# Altium integrated library Micron Memory Mobile LPDRAM.IntLib: 146 symbols (part 19 of 41)
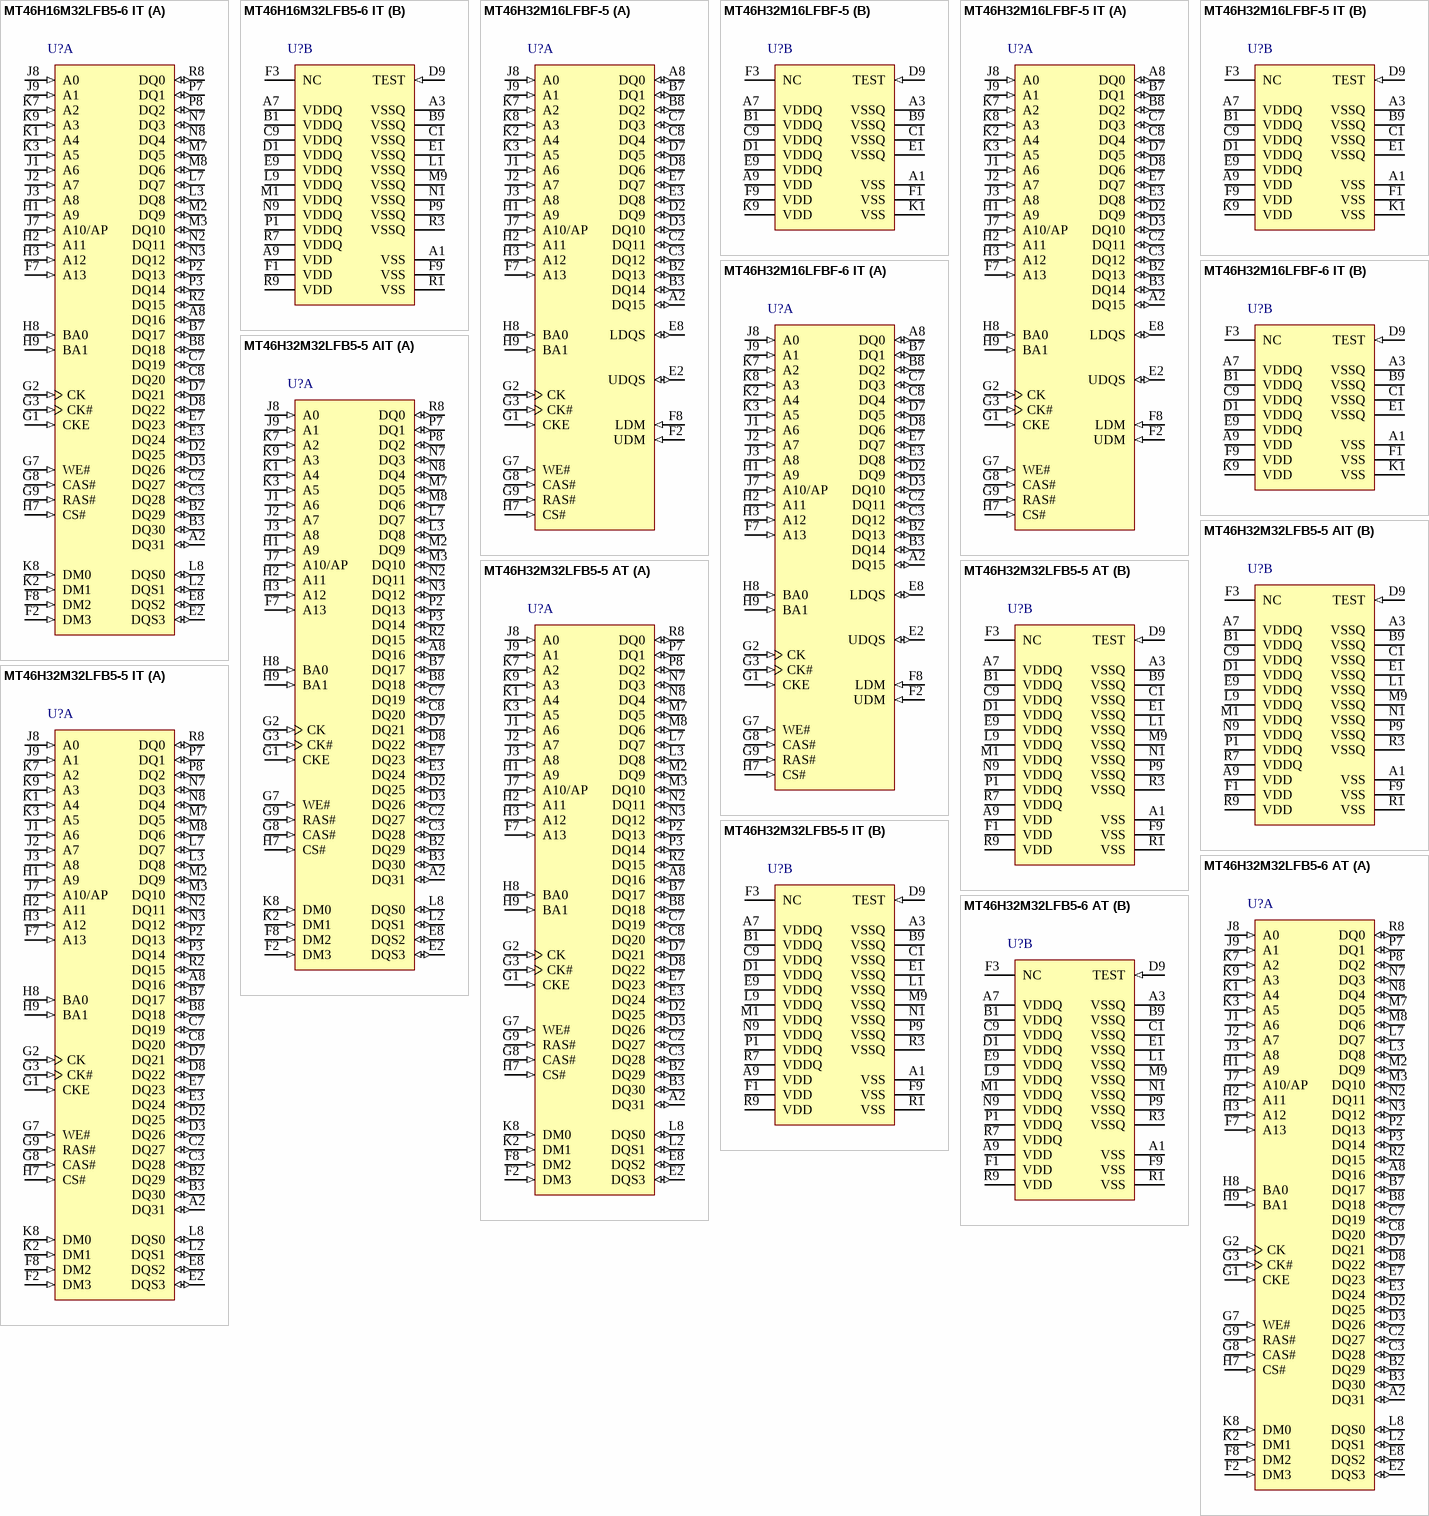
[diagram p42: symbols MT46H16M32LFB5-6 IT to MT46H32M32LFB5-6 AT]

## MT46H32M32LFB5-5 AIT
designator U?
1Gb LPDDR400 SDRAM, 32Mb x 32, 5ns, 1.8V, -40 to 85 degC, 90-Ball VFBGA, Pb-Free; Manufacturer: Micron; PartNumber: MT46H32M32LFB5-5 AIT; Clock Rate: 200 MHz; Op. Temp.: -40C to +85C; DatasheetVersion: Rev.B; PackageVersion: Rev.P; PackageReference: MICT-B5-90; PackageDescription: 90-Ball Very Thin Profile Fine-Pitch Ball Grid Array, 13 x 8 mm, Pitch 0.8 mm; Cycle Time: 5ns; Data Rate: LPDDR400; Density: 1Gb; Depth: 32Mb; Package: VFBGA; Part Status: Contact Factory; Pin Count: 90-ball; RoHS: Yes; Technology: Mobile LPDDR; Voltage: 1.8V; Width: x32; Mounting Technology: Surface Mount; ComponentLink1Description: Manufacturer URL; ComponentLink1URL: http://www.micron.com/; ComponentLink2Description: Datasheet; ComponentLink2URL: http://www.micron.com/~/media/Documents/Products/Data%20Sheet/DRAM/Mobile%20DRAM/Low-Power%20DRAM/LPDDR/60-series/t68m_esg_mobile_lpddr.pdf; ComponentLink3Description: Package Specification; ComponentLink3URL: http://www.micron.com/~/media/Documents/Products/Data%20Sheet/DRAM/Mobile%20DRAM/Low-Power%20DRAM/LPDDR/60-series/T67M_512Mb_mobile_lpddr_sdram_embedded.pdf
footprint MICT-B5-90 (BGA, 90-Balls, Body 13x8mm, Pitch 0.8mm)
part A pins: A2 DQ31 (io) "Data input/output: Data bus for x16 and x32.", A8 DQ16 (io) "Data input/output: Data bus for x16 and x32.", B2 DQ29 (io) "Data input/output: Data bus for x16 and x32.", B3 DQ30 (io) "Data input/output: Data bus for x16 and x32.", B7 DQ17 (io) "Data input/output: Data bus for x16 and x32.", B8 DQ18 (io) "Data input/output: Data bus for x16 and x32.", C2 DQ27 (io) "Data input/output: Data bus for x16 and x32.", C3 DQ28 (io) "Data input/output: Data bus for x16 and x32.", C7 DQ19 (io) "Data input/output: Data bus for x16 and x32.", C8 DQ20 (io) "Data input/output: Data bus for x16 and x32.", D2 DQ25 (io) "Data input/output: Data bus for x16 and x32.", D3 DQ26 (io) "Data input/output: Data bus for x16 and x32.", D7 DQ21 (io) "Data input/output: Data bus for x16 and x32.", D8 DQ22 (io) "Data input/output: Data bus for x16 and x32.", E2 DQS3 (io) "Data strobe: Output with read data, input with write data. DQS is edge-aligned with read data, center-aligned in write data. It is used to capture data.", E3 DQ24 (io) "Data input/output: Data bus for x16 and x32.", E7 DQ23 (io) "Data input/output: Data bus for x16 and x32.", E8 DQS2 (io) "Data strobe: Output with read data, input with write data. DQS is edge-aligned with read data, center-aligned in write data. It is used to capture data.", F2 DM3 (in) "Input data mask: DM is an input mask signal for write data. Input data is masked when DM is sampled HIGH along with that input data during a WRITE access. DM is sampled on both edges of DQS. Although DM balls are input-only, (See Datasheet)", F7 A13 (in) "Address inputs: Provide the row address for ACTIVE commands, and the column address and auto precharge bit (A10) for READ or WRITE commands, to select one location out of the memory array in the respective bank. During a (See Datasheet)", F8 DM2 (in) "Input data mask: DM is an input mask signal for write data. Input data is masked when DM is sampled HIGH along with that input data during a WRITE access. DM is sampled on both edges of DQS. Although DM balls are input-only, (See Datasheet)", G1 CKE (in) "Clock enable: CKE HIGH activates, and CKE LOW deactivates, the internal clock signals, input buffers, and output drivers. Taking CKE LOW enables PRECHARGE power-down and SELF REFRESH operations (all banks idle), or ACTIVE (See Datasheet)", G2 CK (in) "any bank). CKE is synchronous for all functions except SELF REFRESH exit. All input buffers (except CKE) are disabled during power-down and self refresh modes. CKE0 is used for a single LPDDR product. CKE1 is used for dual (See Datasheet)", G3 CK# (in) "Clock: CK is the system clock input. CK and CK# are differential clock inputs. All address and control input signals are sampled on the crossing of the positive edge of CK and the negative edge of CK#. Input and output data (See Datasheet)", G7 WE# (in) "Command inputs: RAS#, CAS#, and WE# (along with CS#) define the command being entered.", G8 CAS# (in) "Command inputs: RAS#, CAS#, and WE# (along with CS#) define the command being entered.", G9 RAS# (in) "Command inputs: RAS#, CAS#, and WE# (along with CS#) define the command being entered.", H1 A9 (in) "Address inputs: Provide the row address for ACTIVE commands, and the column address and auto precharge bit (A10) for READ or WRITE commands, to select one location out of the memory array in the respective bank. During a (See Datasheet)", H2 A11 (in) "Address inputs: Provide the row address for ACTIVE commands, and the column address and auto precharge bit (A10) for READ or WRITE commands, to select one location out of the memory array in the respective bank. During a (See Datasheet)", H3 A12 (in) "Address inputs: Provide the row address for ACTIVE commands, and the column address and auto precharge bit (A10) for READ or WRITE commands, to select one location out of the memory array in the respective bank. During a (See Datasheet)", H7 CS# (in) "Chip select: CS# enables (registered LOW) and disables (registered HIGH) the command decoder. All commands are masked when CS# is registered HIGH. CS# provides for external bank selection on systems with multiple banks. CS# (See Datasheet)", H8 BA0 (in) "Bank address inputs: BA0 and BA1 define to which bank an ACTIVE, READ, WRITE, or PRECHARGE command is being applied. BA0 and BA1 also determine which mode register is loaded during a LOAD MODE REGISTER command.", H9 BA1 (in) "Bank address inputs: BA0 and BA1 define to which bank an ACTIVE, READ, WRITE, or PRECHARGE command is being applied. BA0 and BA1 also determine which mode register is loaded during a LOAD MODE REGISTER command.", J1 A6 (in) "Address inputs: Provide the row address for ACTIVE commands, and the column address and auto precharge bit (A10) for READ or WRITE commands, to select one location out of the memory array in the respective bank. During a (See Datasheet)", J2 A7 (in) "Address inputs: Provide the row address for ACTIVE commands, and the column address and auto precharge bit (A10) for READ or WRITE commands, to select one location out of the memory array in the respective bank. During a (See Datasheet)", J3 A8 (in) "Address inputs: Provide the row address for ACTIVE commands, and the column address and auto precharge bit (A10) for READ or WRITE commands, to select one location out of the memory array in the respective bank. During a (See Datasheet)", J7 A10/AP (in) "Address inputs: Provide the row address for ACTIVE commands, and the column address and auto precharge bit (A10) for READ or WRITE commands, to select one location out of the memory array in the respective bank. During a (See Datasheet)", J8 A0 (in) "Address inputs: Provide the row address for ACTIVE commands, and the column address and auto precharge bit (A10) for READ or WRITE commands, to select one location out of the memory array in the respective bank. During a (See Datasheet)", J9 A1 (in) "Address inputs: Provide the row address for ACTIVE commands, and the column address and auto precharge bit (A10) for READ or WRITE commands, to select one location out of the memory array in the respective bank. During a (See Datasheet)", K1 A4 (in) "Address inputs: Provide the row address for ACTIVE commands, and the column address and auto precharge bit (A10) for READ or WRITE commands, to select one location out of the memory array in the respective bank. During a (See Datasheet)", K2 DM1 (in) "Input data mask: DM is an input mask signal for write data. Input data is masked when DM is sampled HIGH along with that input data during a WRITE access. DM is sampled on both edges of DQS. Although DM balls are input-only, (See Datasheet)", K3 A5 (in) "Address inputs: Provide the row address for ACTIVE commands, and the column address and auto precharge bit (A10) for READ or WRITE commands, to select one location out of the memory array in the respective bank. During a (See Datasheet)", K7 A2 (in) "Address inputs: Provide the row address for ACTIVE commands, and the column address and auto precharge bit (A10) for READ or WRITE commands, to select one location out of the memory array in the respective bank. During a (See Datasheet)", K8 DM0 (in) "Input data mask: DM is an input mask signal for write data. Input data is masked when DM is sampled HIGH along with that input data during a WRITE access. DM is sampled on both edges of DQS. Although DM balls are input-only, (See Datasheet)", K9 A3 (in) "Address inputs: Provide the row address for ACTIVE commands, and the column address and auto precharge bit (A10) for READ or WRITE commands, to select one location out of the memory array in the respective bank. During a (See Datasheet)", L2 DQS1 (io) "Data strobe: Output with read data, input with write data. DQS is edge-aligned with read data, center-aligned in write data. It is used to capture data.", L3 DQ8 (io) "Data input/output: Data bus for x16 and x32.", L7 DQ7 (io) "Data input/output: Data bus for x16 and x32.", L8 DQS0 (io) "Data strobe: Output with read data, input with write data. DQS is edge-aligned with read data, center-aligned in write data. It is used to capture data.", M2 DQ9 (io) "Data input/output: Data bus for x16 and x32.", M3 DQ10 (io) "Data input/output: Data bus for x16 and x32.", M7 DQ5 (io) "Data input/output: Data bus for x16 and x32.", M8 DQ6 (io) "Data input/output: Data bus for x16 and x32.", N2 DQ11 (io) "Data input/output: Data bus for x16 and x32.", N3 DQ12 (io) "Data input/output: Data bus for x16 and x32.", N7 DQ3 (io) "Data input/output: Data bus for x16 and x32.", N8 DQ4 (io) "Data input/output: Data bus for x16 and x32.", P2 DQ13 (io) "Data input/output: Data bus for x16 and x32.", P3 DQ14 (io) "Data input/output: Data bus for x16 and x32.", P7 DQ1 (io) "Data input/output: Data bus for x16 and x32.", P8 DQ2 (io) "Data input/output: Data bus for x16 and x32.", R2 DQ15 (io) "Data input/output: Data bus for x16 and x32.", R8 DQ0 (io) "Data input/output: Data bus for x16 and x32."
part B pins: A1 VSS (power) "Ground.", A3 VSSQ (power) "DQ ground.", A7 VDDQ (power) "DQ power supply.", A9 VDD (power) "Power supply.", B1 VDDQ (power) "DQ power supply.", B9 VSSQ (power) "DQ ground.", C1 VSSQ (power) "DQ ground.", C9 VDDQ (power) "DQ power supply.", D1 VDDQ (power) "DQ power supply.", D9 TEST (in) "Test pin: Must be tied to VSS or VSSQ in normal operations.", E1 VSSQ (power) "DQ ground.", E9 VDDQ (power) "DQ power supply.", F1 VDD (power) "Power supply.", F3 NC "No connect: May be left unconnected.", F9 VSS (power) "Ground.", L1 VSSQ (power) "DQ ground.", L9 VDDQ (power) "DQ power supply.", M1 VDDQ (power) "DQ power supply.", M9 VSSQ (power) "DQ ground.", N1 VSSQ (power) "DQ ground.", N9 VDDQ (power) "DQ power supply.", P1 VDDQ (power) "DQ power supply.", P9 VSSQ (power) "DQ ground.", R1 VSS (power) "Ground.", R3 VSSQ (power) "DQ ground.", R7 VDDQ (power) "DQ power supply.", R9 VDD (power) "Power supply."

## MT46H32M32LFB5-5 AT
designator U?
1Gb LPDDR400 SDRAM, 32Mb x 32, 5ns, 1.8V, -40 to 105 degC, 90-Ball VFBGA, Pb-Free; Manufacturer: Micron; PartNumber: MT46H32M32LFB5-5 AT; Clock Rate: 200 MHz; Op. Temp.: -40C to +105C; DatasheetVersion: Rev.B; PackageVersion: Rev.P; PackageReference: MICT-B5-90; PackageDescription: 90-Ball Very Thin Profile Fine-Pitch Ball Grid Array, 13 x 8 mm, Pitch 0.8 mm; Cycle Time: 5ns; Data Rate: LPDDR400; Density: 1Gb; Depth: 32Mb; Package: VFBGA; Part Status: Production; Pin Count: 90-ball; RoHS: Yes; Technology: Mobile LPDDR; Voltage: 1.8V; Width: x32; Mounting Technology: Surface Mount; ComponentLink1Description: Manufacturer URL; ComponentLink1URL: http://www.micron.com/; ComponentLink2Description: Datasheet; ComponentLink2URL: http://www.micron.com/~/media/Documents/Products/Data%20Sheet/DRAM/Mobile%20DRAM/Low-Power%20DRAM/LPDDR/60-series/t68m_esg_mobile_lpddr.pdf; ComponentLink3Description: Package Specification; ComponentLink3URL: http://www.micron.com/~/media/Documents/Products/Data%20Sheet/DRAM/Mobile%20DRAM/Low-Power%20DRAM/LPDDR/60-series/T67M_512Mb_mobile_lpddr_sdram_embedded.pdf
footprint MICT-B5-90 (BGA, 90-Balls, Body 13x8mm, Pitch 0.8mm)
part A pins: A2 DQ31 (io) "Data input/output: Data bus for x16 and x32.", A8 DQ16 (io) "Data input/output: Data bus for x16 and x32.", B2 DQ29 (io) "Data input/output: Data bus for x16 and x32.", B3 DQ30 (io) "Data input/output: Data bus for x16 and x32.", B7 DQ17 (io) "Data input/output: Data bus for x16 and x32.", B8 DQ18 (io) "Data input/output: Data bus for x16 and x32.", C2 DQ27 (io) "Data input/output: Data bus for x16 and x32.", C3 DQ28 (io) "Data input/output: Data bus for x16 and x32.", C7 DQ19 (io) "Data input/output: Data bus for x16 and x32.", C8 DQ20 (io) "Data input/output: Data bus for x16 and x32.", D2 DQ25 (io) "Data input/output: Data bus for x16 and x32.", D3 DQ26 (io) "Data input/output: Data bus for x16 and x32.", D7 DQ21 (io) "Data input/output: Data bus for x16 and x32.", D8 DQ22 (io) "Data input/output: Data bus for x16 and x32.", E2 DQS3 (io) "Data strobe: Output with read data, input with write data. DQS is edge-aligned with read data, center-aligned in write data. It is used to capture data.", E3 DQ24 (io) "Data input/output: Data bus for x16 and x32.", E7 DQ23 (io) "Data input/output: Data bus for x16 and x32.", E8 DQS2 (io) "Data strobe: Output with read data, input with write data. DQS is edge-aligned with read data, center-aligned in write data. It is used to capture data.", F2 DM3 (in) "Input data mask: DM is an input mask signal for write data. Input data is masked when DM is sampled HIGH along with that input data during a WRITE access. DM is sampled on both edges of DQS. Although DM balls are input-only, (See Datasheet)", F7 A13 (in) "Address inputs: Provide the row address for ACTIVE commands, and the column address and auto precharge bit (A10) for READ or WRITE commands, to select one location out of the memory array in the respective bank. During a (See Datasheet)", F8 DM2 (in) "Input data mask: DM is an input mask signal for write data. Input data is masked when DM is sampled HIGH along with that input data during a WRITE access. DM is sampled on both edges of DQS. Although DM balls are input-only, (See Datasheet)", G1 CKE (in) "Clock enable: CKE HIGH activates, and CKE LOW deactivates, the internal clock signals, input buffers, and output drivers. Taking CKE LOW enables PRECHARGE power-down and SELF REFRESH operations (all banks idle), or ACTIVE (See Datasheet)", G2 CK (in) "any bank). CKE is synchronous for all functions except SELF REFRESH exit. All input buffers (except CKE) are disabled during power-down and self refresh modes. CKE0 is used for a single LPDDR product. CKE1 is used for dual (See Datasheet)", G3 CK# (in) "Clock: CK is the system clock input. CK and CK# are differential clock inputs. All address and control input signals are sampled on the crossing of the positive edge of CK and the negative edge of CK#. Input and output data (See Datasheet)", G7 WE# (in) "Command inputs: RAS#, CAS#, and WE# (along with CS#) define the command being entered.", G8 CAS# (in) "Command inputs: RAS#, CAS#, and WE# (along with CS#) define the command being entered.", G9 RAS# (in) "Command inputs: RAS#, CAS#, and WE# (along with CS#) define the command being entered.", H1 A9 (in) "Address inputs: Provide the row address for ACTIVE commands, and the column address and auto precharge bit (A10) for READ or WRITE commands, to select one location out of the memory array in the respective bank. During a (See Datasheet)", H2 A11 (in) "Address inputs: Provide the row address for ACTIVE commands, and the column address and auto precharge bit (A10) for READ or WRITE commands, to select one location out of the memory array in the respective bank. During a (See Datasheet)", H3 A12 (in) "Address inputs: Provide the row address for ACTIVE commands, and the column address and auto precharge bit (A10) for READ or WRITE commands, to select one location out of the memory array in the respective bank. During a (See Datasheet)", H7 CS# (in) "Chip select: CS# enables (registered LOW) and disables (registered HIGH) the command decoder. All commands are masked when CS# is registered HIGH. CS# provides for external bank selection on systems with multiple banks. CS# (See Datasheet)", H8 BA0 (in) "Bank address inputs: BA0 and BA1 define to which bank an ACTIVE, READ, WRITE, or PRECHARGE command is being applied. BA0 and BA1 also determine which mode register is loaded during a LOAD MODE REGISTER command.", H9 BA1 (in) "Bank address inputs: BA0 and BA1 define to which bank an ACTIVE, READ, WRITE, or PRECHARGE command is being applied. BA0 and BA1 also determine which mode register is loaded during a LOAD MODE REGISTER command.", J1 A6 (in) "Address inputs: Provide the row address for ACTIVE commands, and the column address and auto precharge bit (A10) for READ or WRITE commands, to select one location out of the memory array in the respective bank. During a (See Datasheet)", J2 A7 (in) "Address inputs: Provide the row address for ACTIVE commands, and the column address and auto precharge bit (A10) for READ or WRITE commands, to select one location out of the memory array in the respective bank. During a (See Datasheet)", J3 A8 (in) "Address inputs: Provide the row address for ACTIVE commands, and the column address and auto precharge bit (A10) for READ or WRITE commands, to select one location out of the memory array in the respective bank. During a (See Datasheet)", J7 A10/AP (in) "Address inputs: Provide the row address for ACTIVE commands, and the column address and auto precharge bit (A10) for READ or WRITE commands, to select one location out of the memory array in the respective bank. During a (See Datasheet)", J8 A0 (in) "Address inputs: Provide the row address for ACTIVE commands, and the column address and auto precharge bit (A10) for READ or WRITE commands, to select one location out of the memory array in the respective bank. During a (See Datasheet)", J9 A1 (in) "Address inputs: Provide the row address for ACTIVE commands, and the column address and auto precharge bit (A10) for READ or WRITE commands, to select one location out of the memory array in the respective bank. During a (See Datasheet)", K1 A4 (in) "Address inputs: Provide the row address for ACTIVE commands, and the column address and auto precharge bit (A10) for READ or WRITE commands, to select one location out of the memory array in the respective bank. During a (See Datasheet)", K2 DM1 (in) "Input data mask: DM is an input mask signal for write data. Input data is masked when DM is sampled HIGH along with that input data during a WRITE access. DM is sampled on both edges of DQS. Although DM balls are input-only, (See Datasheet)", K3 A5 (in) "Address inputs: Provide the row address for ACTIVE commands, and the column address and auto precharge bit (A10) for READ or WRITE commands, to select one location out of the memory array in the respective bank. During a (See Datasheet)", K7 A2 (in) "Address inputs: Provide the row address for ACTIVE commands, and the column address and auto precharge bit (A10) for READ or WRITE commands, to select one location out of the memory array in the respective bank. During a (See Datasheet)", K8 DM0 (in) "Input data mask: DM is an input mask signal for write data. Input data is masked when DM is sampled HIGH along with that input data during a WRITE access. DM is sampled on both edges of DQS. Although DM balls are input-only, (See Datasheet)", K9 A3 (in) "Address inputs: Provide the row address for ACTIVE commands, and the column address and auto precharge bit (A10) for READ or WRITE commands, to select one location out of the memory array in the respective bank. During a (See Datasheet)", L2 DQS1 (io) "Data strobe: Output with read data, input with write data. DQS is edge-aligned with read data, center-aligned in write data. It is used to capture data.", L3 DQ8 (io) "Data input/output: Data bus for x16 and x32.", L7 DQ7 (io) "Data input/output: Data bus for x16 and x32.", L8 DQS0 (io) "Data strobe: Output with read data, input with write data. DQS is edge-aligned with read data, center-aligned in write data. It is used to capture data.", M2 DQ9 (io) "Data input/output: Data bus for x16 and x32.", M3 DQ10 (io) "Data input/output: Data bus for x16 and x32.", M7 DQ5 (io) "Data input/output: Data bus for x16 and x32.", M8 DQ6 (io) "Data input/output: Data bus for x16 and x32.", N2 DQ11 (io) "Data input/output: Data bus for x16 and x32.", N3 DQ12 (io) "Data input/output: Data bus for x16 and x32.", N7 DQ3 (io) "Data input/output: Data bus for x16 and x32.", N8 DQ4 (io) "Data input/output: Data bus for x16 and x32.", P2 DQ13 (io) "Data input/output: Data bus for x16 and x32.", P3 DQ14 (io) "Data input/output: Data bus for x16 and x32.", P7 DQ1 (io) "Data input/output: Data bus for x16 and x32.", P8 DQ2 (io) "Data input/output: Data bus for x16 and x32.", R2 DQ15 (io) "Data input/output: Data bus for x16 and x32.", R8 DQ0 (io) "Data input/output: Data bus for x16 and x32."
part B pins: A1 VSS (power) "Ground.", A3 VSSQ (power) "DQ ground.", A7 VDDQ (power) "DQ power supply.", A9 VDD (power) "Power supply.", B1 VDDQ (power) "DQ power supply.", B9 VSSQ (power) "DQ ground.", C1 VSSQ (power) "DQ ground.", C9 VDDQ (power) "DQ power supply.", D1 VDDQ (power) "DQ power supply.", D9 TEST (in) "Test pin: Must be tied to VSS or VSSQ in normal operations.", E1 VSSQ (power) "DQ ground.", E9 VDDQ (power) "DQ power supply.", F1 VDD (power) "Power supply.", F3 NC "No connect: May be left unconnected.", F9 VSS (power) "Ground.", L1 VSSQ (power) "DQ ground.", L9 VDDQ (power) "DQ power supply.", M1 VDDQ (power) "DQ power supply.", M9 VSSQ (power) "DQ ground.", N1 VSSQ (power) "DQ ground.", N9 VDDQ (power) "DQ power supply.", P1 VDDQ (power) "DQ power supply.", P9 VSSQ (power) "DQ ground.", R1 VSS (power) "Ground.", R3 VSSQ (power) "DQ ground.", R7 VDDQ (power) "DQ power supply.", R9 VDD (power) "Power supply."

## MT46H32M32LFB5-5 IT
designator U?
1Gb LPDDR400 SDRAM, 32Mb x 32, 5ns, 1.8V, -40 to 85 degC, 90-Ball VFBGA, Pb-Free; Manufacturer: Micron; PartNumber: MT46H32M32LFB5-5 IT; Clock Rate: 200 MHz; Op. Temp.: -40C to +85C; DatasheetVersion: Rev.B; PackageVersion: Rev.P; PackageReference: MICT-B5-90; PackageDescription: 90-Ball Very Thin Profile Fine-Pitch Ball Grid Array, 13 x 8 mm, Pitch 0.8 mm; Cycle Time: 5ns; Data Rate: LPDDR400; Density: 1Gb; Depth: 32Mb; Package: VFBGA; Part Status: Production; Pin Count: 90-ball; RoHS: Yes; Technology: Mobile LPDDR; Voltage: 1.8V; Width: x32; Mounting Technology: Surface Mount; ComponentLink1Description: Manufacturer URL; ComponentLink1URL: http://www.micron.com/; ComponentLink2Description: Datasheet; ComponentLink2URL: http://www.micron.com/~/media/Documents/Products/Data%20Sheet/DRAM/Mobile%20DRAM/Low-Power%20DRAM/LPDDR/60-series/t68m_esg_mobile_lpddr.pdf; ComponentLink3Description: Package Specification; ComponentLink3URL: http://www.micron.com/~/media/Documents/Products/Data%20Sheet/DRAM/Mobile%20DRAM/Low-Power%20DRAM/LPDDR/60-series/T67M_512Mb_mobile_lpddr_sdram_embedded.pdf
footprint MICT-B5-90 (BGA, 90-Balls, Body 13x8mm, Pitch 0.8mm)
part A pins: A2 DQ31 (io) "Data input/output: Data bus for x16 and x32.", A8 DQ16 (io) "Data input/output: Data bus for x16 and x32.", B2 DQ29 (io) "Data input/output: Data bus for x16 and x32.", B3 DQ30 (io) "Data input/output: Data bus for x16 and x32.", B7 DQ17 (io) "Data input/output: Data bus for x16 and x32.", B8 DQ18 (io) "Data input/output: Data bus for x16 and x32.", C2 DQ27 (io) "Data input/output: Data bus for x16 and x32.", C3 DQ28 (io) "Data input/output: Data bus for x16 and x32.", C7 DQ19 (io) "Data input/output: Data bus for x16 and x32.", C8 DQ20 (io) "Data input/output: Data bus for x16 and x32.", D2 DQ25 (io) "Data input/output: Data bus for x16 and x32.", D3 DQ26 (io) "Data input/output: Data bus for x16 and x32.", D7 DQ21 (io) "Data input/output: Data bus for x16 and x32.", D8 DQ22 (io) "Data input/output: Data bus for x16 and x32.", E2 DQS3 (io) "Data strobe: Output with read data, input with write data. DQS is edge-aligned with read data, center-aligned in write data. It is used to capture data.", E3 DQ24 (io) "Data input/output: Data bus for x16 and x32.", E7 DQ23 (io) "Data input/output: Data bus for x16 and x32.", E8 DQS2 (io) "Data strobe: Output with read data, input with write data. DQS is edge-aligned with read data, center-aligned in write data. It is used to capture data.", F2 DM3 (in) "Input data mask: DM is an input mask signal for write data. Input data is masked when DM is sampled HIGH along with that input data during a WRITE access. DM is sampled on both edges of DQS. Although DM balls are input-only, (See Datasheet)", F7 A13 (in) "Address inputs: Provide the row address for ACTIVE commands, and the column address and auto precharge bit (A10) for READ or WRITE commands, to select one location out of the memory array in the respective bank. During a (See Datasheet)", F8 DM2 (in) "Input data mask: DM is an input mask signal for write data. Input data is masked when DM is sampled HIGH along with that input data during a WRITE access. DM is sampled on both edges of DQS. Although DM balls are input-only, (See Datasheet)", G1 CKE (in) "Clock enable: CKE HIGH activates, and CKE LOW deactivates, the internal clock signals, input buffers, and output drivers. Taking CKE LOW enables PRECHARGE power-down and SELF REFRESH operations (all banks idle), or ACTIVE (See Datasheet)", G2 CK (in) "any bank). CKE is synchronous for all functions except SELF REFRESH exit. All input buffers (except CKE) are disabled during power-down and self refresh modes. CKE0 is used for a single LPDDR product. CKE1 is used for dual (See Datasheet)", G3 CK# (in) "Clock: CK is the system clock input. CK and CK# are differential clock inputs. All address and control input signals are sampled on the crossing of the positive edge of CK and the negative edge of CK#. Input and output data (See Datasheet)", G7 WE# (in) "Command inputs: RAS#, CAS#, and WE# (along with CS#) define the command being entered.", G8 CAS# (in) "Command inputs: RAS#, CAS#, and WE# (along with CS#) define the command being entered.", G9 RAS# (in) "Command inputs: RAS#, CAS#, and WE# (along with CS#) define the command being entered.", H1 A9 (in) "Address inputs: Provide the row address for ACTIVE commands, and the column address and auto precharge bit (A10) for READ or WRITE commands, to select one location out of the memory array in the respective bank. During a (See Datasheet)", H2 A11 (in) "Address inputs: Provide the row address for ACTIVE commands, and the column address and auto precharge bit (A10) for READ or WRITE commands, to select one location out of the memory array in the respective bank. During a (See Datasheet)", H3 A12 (in) "Address inputs: Provide the row address for ACTIVE commands, and the column address and auto precharge bit (A10) for READ or WRITE commands, to select one location out of the memory array in the respective bank. During a (See Datasheet)", H7 CS# (in) "Chip select: CS# enables (registered LOW) and disables (registered HIGH) the command decoder. All commands are masked when CS# is registered HIGH. CS# provides for external bank selection on systems with multiple banks. CS# (See Datasheet)", H8 BA0 (in) "Bank address inputs: BA0 and BA1 define to which bank an ACTIVE, READ, WRITE, or PRECHARGE command is being applied. BA0 and BA1 also determine which mode register is loaded during a LOAD MODE REGISTER command.", H9 BA1 (in) "Bank address inputs: BA0 and BA1 define to which bank an ACTIVE, READ, WRITE, or PRECHARGE command is being applied. BA0 and BA1 also determine which mode register is loaded during a LOAD MODE REGISTER command.", J1 A6 (in) "Address inputs: Provide the row address for ACTIVE commands, and the column address and auto precharge bit (A10) for READ or WRITE commands, to select one location out of the memory array in the respective bank. During a (See Datasheet)", J2 A7 (in) "Address inputs: Provide the row address for ACTIVE commands, and the column address and auto precharge bit (A10) for READ or WRITE commands, to select one location out of the memory array in the respective bank. During a (See Datasheet)", J3 A8 (in) "Address inputs: Provide the row address for ACTIVE commands, and the column address and auto precharge bit (A10) for READ or WRITE commands, to select one location out of the memory array in the respective bank. During a (See Datasheet)", J7 A10/AP (in) "Address inputs: Provide the row address for ACTIVE commands, and the column address and auto precharge bit (A10) for READ or WRITE commands, to select one location out of the memory array in the respective bank. During a (See Datasheet)", J8 A0 (in) "Address inputs: Provide the row address for ACTIVE commands, and the column address and auto precharge bit (A10) for READ or WRITE commands, to select one location out of the memory array in the respective bank. During a (See Datasheet)", J9 A1 (in) "Address inputs: Provide the row address for ACTIVE commands, and the column address and auto precharge bit (A10) for READ or WRITE commands, to select one location out of the memory array in the respective bank. During a (See Datasheet)", K1 A4 (in) "Address inputs: Provide the row address for ACTIVE commands, and the column address and auto precharge bit (A10) for READ or WRITE commands, to select one location out of the memory array in the respective bank. During a (See Datasheet)", K2 DM1 (in) "Input data mask: DM is an input mask signal for write data. Input data is masked when DM is sampled HIGH along with that input data during a WRITE access. DM is sampled on both edges of DQS. Although DM balls are input-only, (See Datasheet)", K3 A5 (in) "Address inputs: Provide the row address for ACTIVE commands, and the column address and auto precharge bit (A10) for READ or WRITE commands, to select one location out of the memory array in the respective bank. During a (See Datasheet)", K7 A2 (in) "Address inputs: Provide the row address for ACTIVE commands, and the column address and auto precharge bit (A10) for READ or WRITE commands, to select one location out of the memory array in the respective bank. During a (See Datasheet)", K8 DM0 (in) "Input data mask: DM is an input mask signal for write data. Input data is masked when DM is sampled HIGH along with that input data during a WRITE access. DM is sampled on both edges of DQS. Although DM balls are input-only, (See Datasheet)", K9 A3 (in) "Address inputs: Provide the row address for ACTIVE commands, and the column address and auto precharge bit (A10) for READ or WRITE commands, to select one location out of the memory array in the respective bank. During a (See Datasheet)", L2 DQS1 (io) "Data strobe: Output with read data, input with write data. DQS is edge-aligned with read data, center-aligned in write data. It is used to capture data.", L3 DQ8 (io) "Data input/output: Data bus for x16 and x32.", L7 DQ7 (io) "Data input/output: Data bus for x16 and x32.", L8 DQS0 (io) "Data strobe: Output with read data, input with write data. DQS is edge-aligned with read data, center-aligned in write data. It is used to capture data.", M2 DQ9 (io) "Data input/output: Data bus for x16 and x32.", M3 DQ10 (io) "Data input/output: Data bus for x16 and x32.", M7 DQ5 (io) "Data input/output: Data bus for x16 and x32.", M8 DQ6 (io) "Data input/output: Data bus for x16 and x32.", N2 DQ11 (io) "Data input/output: Data bus for x16 and x32.", N3 DQ12 (io) "Data input/output: Data bus for x16 and x32.", N7 DQ3 (io) "Data input/output: Data bus for x16 and x32.", N8 DQ4 (io) "Data input/output: Data bus for x16 and x32.", P2 DQ13 (io) "Data input/output: Data bus for x16 and x32.", P3 DQ14 (io) "Data input/output: Data bus for x16 and x32.", P7 DQ1 (io) "Data input/output: Data bus for x16 and x32.", P8 DQ2 (io) "Data input/output: Data bus for x16 and x32.", R2 DQ15 (io) "Data input/output: Data bus for x16 and x32.", R8 DQ0 (io) "Data input/output: Data bus for x16 and x32."
part B pins: A1 VSS (power) "Ground.", A3 VSSQ (power) "DQ ground.", A7 VDDQ (power) "DQ power supply.", A9 VDD (power) "Power supply.", B1 VDDQ (power) "DQ power supply.", B9 VSSQ (power) "DQ ground.", C1 VSSQ (power) "DQ ground.", C9 VDDQ (power) "DQ power supply.", D1 VDDQ (power) "DQ power supply.", D9 TEST (in) "Test pin: Must be tied to VSS or VSSQ in normal operations.", E1 VSSQ (power) "DQ ground.", E9 VDDQ (power) "DQ power supply.", F1 VDD (power) "Power supply.", F3 NC "No connect: May be left unconnected.", F9 VSS (power) "Ground.", L1 VSSQ (power) "DQ ground.", L9 VDDQ (power) "DQ power supply.", M1 VDDQ (power) "DQ power supply.", M9 VSSQ (power) "DQ ground.", N1 VSSQ (power) "DQ ground.", N9 VDDQ (power) "DQ power supply.", P1 VDDQ (power) "DQ power supply.", P9 VSSQ (power) "DQ ground.", R1 VSS (power) "Ground.", R3 VSSQ (power) "DQ ground.", R7 VDDQ (power) "DQ power supply.", R9 VDD (power) "Power supply."

## MT46H32M32LFB5-6 AT
designator U?
1Gb LPDDR333 SDRAM, 32Mb x 32, 6ns, 1.8V, -40 to 105 degC, 90-Ball VFBGA, Pb-Free; Manufacturer: Micron; PartNumber: MT46H32M32LFB5-6 AT; Clock Rate: 167 MHz; Op. Temp.: -40C to +105C; DatasheetVersion: Rev.B; PackageVersion: Rev.P; PackageReference: MICT-B5-90; PackageDescription: 90-Ball Very Thin Profile Fine-Pitch Ball Grid Array, 13 x 8 mm, Pitch 0.8 mm; Cycle Time: 6ns; Data Rate: LPDDR333; Density: 1Gb; Depth: 32Mb; Package: VFBGA; Part Status: Production; Pin Count: 90-ball; RoHS: Yes; Technology: Mobile LPDDR; Voltage: 1.8V; Width: x32; Mounting Technology: Surface Mount; ComponentLink1Description: Manufacturer URL; ComponentLink1URL: http://www.micron.com/; ComponentLink2Description: Datasheet; ComponentLink2URL: http://www.micron.com/~/media/Documents/Products/Data%20Sheet/DRAM/Mobile%20DRAM/Low-Power%20DRAM/LPDDR/60-series/t68m_esg_mobile_lpddr.pdf; ComponentLink3Description: Package Specification; ComponentLink3URL: http://www.micron.com/~/media/Documents/Products/Data%20Sheet/DRAM/Mobile%20DRAM/Low-Power%20DRAM/LPDDR/60-series/T67M_512Mb_mobile_lpddr_sdram_embedded.pdf
footprint MICT-B5-90 (BGA, 90-Balls, Body 13x8mm, Pitch 0.8mm)
part A pins: A2 DQ31 (io) "Data input/output: Data bus for x16 and x32.", A8 DQ16 (io) "Data input/output: Data bus for x16 and x32.", B2 DQ29 (io) "Data input/output: Data bus for x16 and x32.", B3 DQ30 (io) "Data input/output: Data bus for x16 and x32.", B7 DQ17 (io) "Data input/output: Data bus for x16 and x32.", B8 DQ18 (io) "Data input/output: Data bus for x16 and x32.", C2 DQ27 (io) "Data input/output: Data bus for x16 and x32.", C3 DQ28 (io) "Data input/output: Data bus for x16 and x32.", C7 DQ19 (io) "Data input/output: Data bus for x16 and x32.", C8 DQ20 (io) "Data input/output: Data bus for x16 and x32.", D2 DQ25 (io) "Data input/output: Data bus for x16 and x32.", D3 DQ26 (io) "Data input/output: Data bus for x16 and x32.", D7 DQ21 (io) "Data input/output: Data bus for x16 and x32.", D8 DQ22 (io) "Data input/output: Data bus for x16 and x32.", E2 DQS3 (io) "Data strobe: Output with read data, input with write data. DQS is edge-aligned with read data, center-aligned in write data. It is used to capture data.", E3 DQ24 (io) "Data input/output: Data bus for x16 and x32.", E7 DQ23 (io) "Data input/output: Data bus for x16 and x32.", E8 DQS2 (io) "Data strobe: Output with read data, input with write data. DQS is edge-aligned with read data, center-aligned in write data. It is used to capture data.", F2 DM3 (in) "Input data mask: DM is an input mask signal for write data. Input data is masked when DM is sampled HIGH along with that input data during a WRITE access. DM is sampled on both edges of DQS. Although DM balls are input-only, (See Datasheet)", F7 A13 (in) "Address inputs: Provide the row address for ACTIVE commands, and the column address and auto precharge bit (A10) for READ or WRITE commands, to select one location out of the memory array in the respective bank. During a (See Datasheet)", F8 DM2 (in) "Input data mask: DM is an input mask signal for write data. Input data is masked when DM is sampled HIGH along with that input data during a WRITE access. DM is sampled on both edges of DQS. Although DM balls are input-only, (See Datasheet)", G1 CKE (in) "Clock enable: CKE HIGH activates, and CKE LOW deactivates, the internal clock signals, input buffers, and output drivers. Taking CKE LOW enables PRECHARGE power-down and SELF REFRESH operations (all banks idle), or ACTIVE (See Datasheet)", G2 CK (in) "any bank). CKE is synchronous for all functions except SELF REFRESH exit. All input buffers (except CKE) are disabled during power-down and self refresh modes. CKE0 is used for a single LPDDR product. CKE1 is used for dual (See Datasheet)", G3 CK# (in) "Clock: CK is the system clock input. CK and CK# are differential clock inputs. All address and control input signals are sampled on the crossing of the positive edge of CK and the negative edge of CK#. Input and output data (See Datasheet)", G7 WE# (in) "Command inputs: RAS#, CAS#, and WE# (along with CS#) define the command being entered.", G8 CAS# (in) "Command inputs: RAS#, CAS#, and WE# (along with CS#) define the command being entered.", G9 RAS# (in) "Command inputs: RAS#, CAS#, and WE# (along with CS#) define the command being entered.", H1 A9 (in) "Address inputs: Provide the row address for ACTIVE commands, and the column address and auto precharge bit (A10) for READ or WRITE commands, to select one location out of the memory array in the respective bank. During a (See Datasheet)", H2 A11 (in) "Address inputs: Provide the row address for ACTIVE commands, and the column address and auto precharge bit (A10) for READ or WRITE commands, to select one location out of the memory array in the respective bank. During a (See Datasheet)", H3 A12 (in) "Address inputs: Provide the row address for ACTIVE commands, and the column address and auto precharge bit (A10) for READ or WRITE commands, to select one location out of the memory array in the respective bank. During a (See Datasheet)", H7 CS# (in) "Chip select: CS# enables (registered LOW) and disables (registered HIGH) the command decoder. All commands are masked when CS# is registered HIGH. CS# provides for external bank selection on systems with multiple banks. CS# (See Datasheet)", H8 BA0 (in) "Bank address inputs: BA0 and BA1 define to which bank an ACTIVE, READ, WRITE, or PRECHARGE command is being applied. BA0 and BA1 also determine which mode register is loaded during a LOAD MODE REGISTER command.", H9 BA1 (in) "Bank address inputs: BA0 and BA1 define to which bank an ACTIVE, READ, WRITE, or PRECHARGE command is being applied. BA0 and BA1 also determine which mode register is loaded during a LOAD MODE REGISTER command.", J1 A6 (in) "Address inputs: Provide the row address for ACTIVE commands, and the column address and auto precharge bit (A10) for READ or WRITE commands, to select one location out of the memory array in the respective bank. During a (See Datasheet)", J2 A7 (in) "Address inputs: Provide the row address for ACTIVE commands, and the column address and auto precharge bit (A10) for READ or WRITE commands, to select one location out of the memory array in the respective bank. During a (See Datasheet)", J3 A8 (in) "Address inputs: Provide the row address for ACTIVE commands, and the column address and auto precharge bit (A10) for READ or WRITE commands, to select one location out of the memory array in the respective bank. During a (See Datasheet)", J7 A10/AP (in) "Address inputs: Provide the row address for ACTIVE commands, and the column address and auto precharge bit (A10) for READ or WRITE commands, to select one location out of the memory array in the respective bank. During a (See Datasheet)", J8 A0 (in) "Address inputs: Provide the row address for ACTIVE commands, and the column address and auto precharge bit (A10) for READ or WRITE commands, to select one location out of the memory array in the respective bank. During a (See Datasheet)", J9 A1 (in) "Address inputs: Provide the row address for ACTIVE commands, and the column address and auto precharge bit (A10) for READ or WRITE commands, to select one location out of the memory array in the respective bank. During a (See Datasheet)", K1 A4 (in) "Address inputs: Provide the row address for ACTIVE commands, and the column address and auto precharge bit (A10) for READ or WRITE commands, to select one location out of the memory array in the respective bank. During a (See Datasheet)", K2 DM1 (in) "Input data mask: DM is an input mask signal for write data. Input data is masked when DM is sampled HIGH along with that input data during a WRITE access. DM is sampled on both edges of DQS. Although DM balls are input-only, (See Datasheet)", K3 A5 (in) "Address inputs: Provide the row address for ACTIVE commands, and the column address and auto precharge bit (A10) for READ or WRITE commands, to select one location out of the memory array in the respective bank. During a (See Datasheet)", K7 A2 (in) "Address inputs: Provide the row address for ACTIVE commands, and the column address and auto precharge bit (A10) for READ or WRITE commands, to select one location out of the memory array in the respective bank. During a (See Datasheet)", K8 DM0 (in) "Input data mask: DM is an input mask signal for write data. Input data is masked when DM is sampled HIGH along with that input data during a WRITE access. DM is sampled on both edges of DQS. Although DM balls are input-only, (See Datasheet)", K9 A3 (in) "Address inputs: Provide the row address for ACTIVE commands, and the column address and auto precharge bit (A10) for READ or WRITE commands, to select one location out of the memory array in the respective bank. During a (See Datasheet)", L2 DQS1 (io) "Data strobe: Output with read data, input with write data. DQS is edge-aligned with read data, center-aligned in write data. It is used to capture data.", L3 DQ8 (io) "Data input/output: Data bus for x16 and x32.", L7 DQ7 (io) "Data input/output: Data bus for x16 and x32.", L8 DQS0 (io) "Data strobe: Output with read data, input with write data. DQS is edge-aligned with read data, center-aligned in write data. It is used to capture data.", M2 DQ9 (io) "Data input/output: Data bus for x16 and x32.", M3 DQ10 (io) "Data input/output: Data bus for x16 and x32.", M7 DQ5 (io) "Data input/output: Data bus for x16 and x32.", M8 DQ6 (io) "Data input/output: Data bus for x16 and x32.", N2 DQ11 (io) "Data input/output: Data bus for x16 and x32.", N3 DQ12 (io) "Data input/output: Data bus for x16 and x32.", N7 DQ3 (io) "Data input/output: Data bus for x16 and x32.", N8 DQ4 (io) "Data input/output: Data bus for x16 and x32.", P2 DQ13 (io) "Data input/output: Data bus for x16 and x32.", P3 DQ14 (io) "Data input/output: Data bus for x16 and x32.", P7 DQ1 (io) "Data input/output: Data bus for x16 and x32.", P8 DQ2 (io) "Data input/output: Data bus for x16 and x32.", R2 DQ15 (io) "Data input/output: Data bus for x16 and x32.", R8 DQ0 (io) "Data input/output: Data bus for x16 and x32."
part B pins: A1 VSS (power) "Ground.", A3 VSSQ (power) "DQ ground.", A7 VDDQ (power) "DQ power supply.", A9 VDD (power) "Power supply.", B1 VDDQ (power) "DQ power supply.", B9 VSSQ (power) "DQ ground.", C1 VSSQ (power) "DQ ground.", C9 VDDQ (power) "DQ power supply.", D1 VDDQ (power) "DQ power supply.", D9 TEST (in) "Test pin: Must be tied to VSS or VSSQ in normal operations.", E1 VSSQ (power) "DQ ground.", E9 VDDQ (power) "DQ power supply.", F1 VDD (power) "Power supply.", F3 NC "No connect: May be left unconnected.", F9 VSS (power) "Ground.", L1 VSSQ (power) "DQ ground.", L9 VDDQ (power) "DQ power supply.", M1 VDDQ (power) "DQ power supply.", M9 VSSQ (power) "DQ ground.", N1 VSSQ (power) "DQ ground.", N9 VDDQ (power) "DQ power supply.", P1 VDDQ (power) "DQ power supply.", P9 VSSQ (power) "DQ ground.", R1 VSS (power) "Ground.", R3 VSSQ (power) "DQ ground.", R7 VDDQ (power) "DQ power supply.", R9 VDD (power) "Power supply."

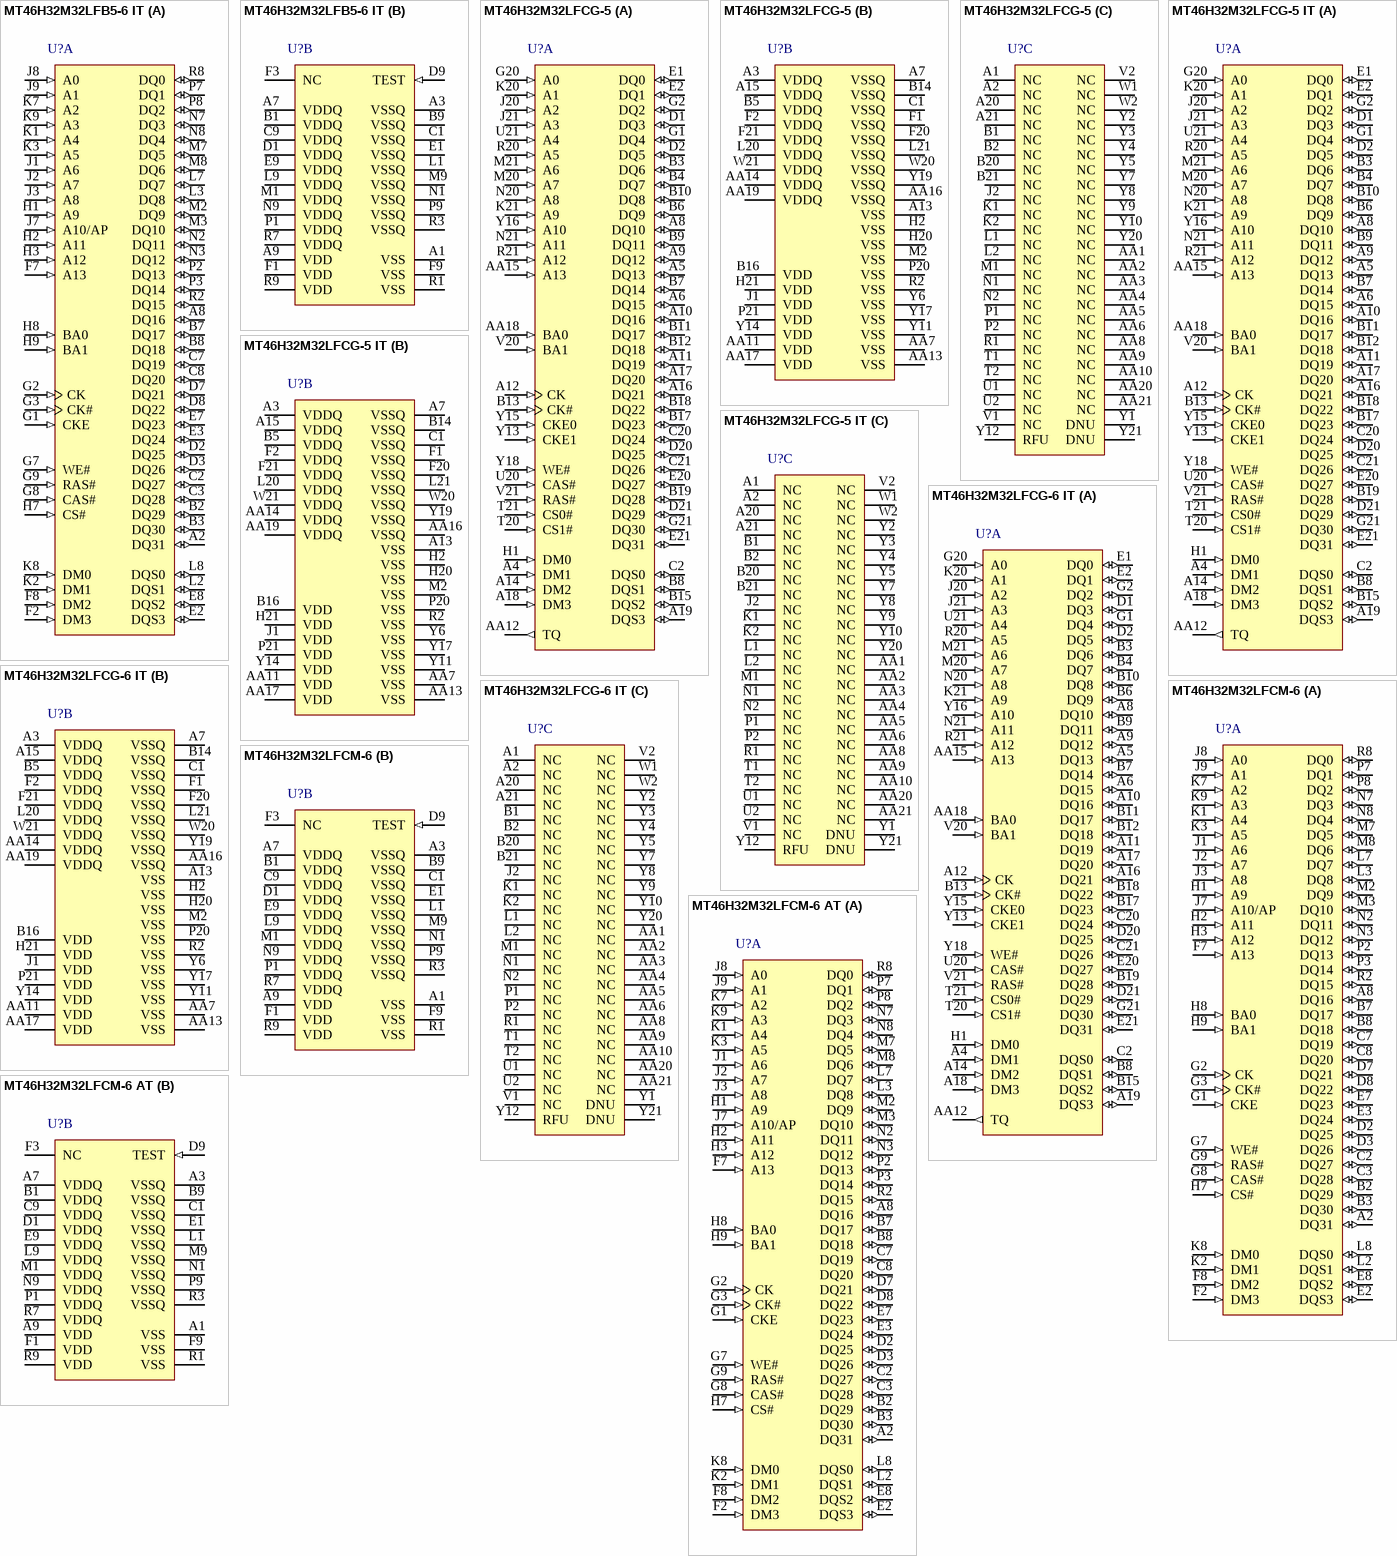
[diagram p12: symbols MT46H32M32LFB5-6 IT to MT46H32M32LFCM-6 AT]